# Altium schematic symbol library SCH - CONNECTORS - 2x8 PIN DU.SCHLIB: 1 symbol
Pins are listed as number, name and electrical type; pins without a type are passive.

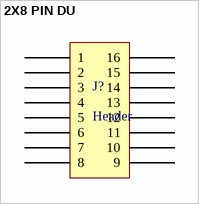
[diagram p0: symbol 2X8 PIN DU]

## 2X8 PIN DU
designator J?, comment Header
pins: 1, 2, 3, 4, 5, 6, 7, 8, 9, 10, 11, 12, 13, 14, 15, 16